# EAGLE library part ACS712-* (library Allegro)
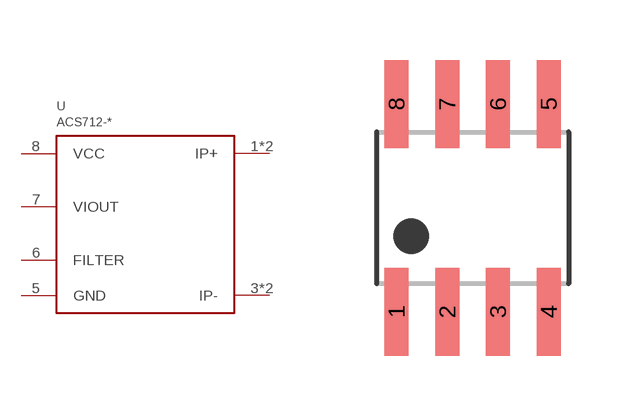
[diagram p0: symbol with the pads of SOIC8; footprint SOIC8]

Designator prefix U

## ACS712-05B, ACS712-20A, ACS712-30A  [SOIC8]
1  IP+
2  IP+
3  IP-
4  IP-
5  GND
6  FILTER
7  VIOUT
8  VCC

## Footprint SOIC8 (pad centres in mm)
smd 0.6 x 2.2: 1 -1.905,-2.6; 2 -0.635,-2.6; 3 0.635,-2.6; 4 1.905,-2.6; 5 1.905,2.6; 6 0.635,2.6; 7 -0.635,2.6; 8 -1.905,2.6